# Altium footprint library Integrated Half-Bridge with driver_sizes.PcbLib: 2 footprints
Each footprint in its own frame and in the unit in brackets; x right, y up, seen from the top. Pads: shape width x height; smd on the part's side, far side on the other; paste and mask are expansions set on the pad; w line width, h text height; cw(c..) or ccw(c..) is an arc to the next point about the centre after c.
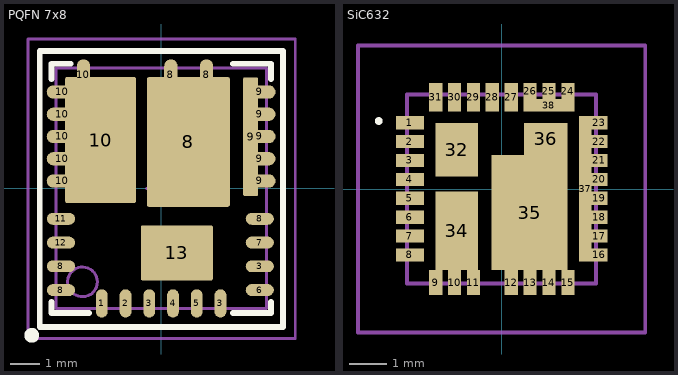
[diagram p0: the footprints below, top view; thin cyan lines are the x and y axes]

## PQFN 7x8 [mm]
pads (31):
  oval 0.4x0.95 smd: 1(-2,-3.875) 2(-1.2,-3.875) 3(-0.4,-3.875) 3(2,-3.875) 4(0.4,-3.875) 5(1.2,-3.875)
  oval 0.95x0.4 smd: 3(3.325,-2.625) 6(3.325,-3.425) 7(3.325,-1.825) 8(-3.375,-3.425) 8(-3.375,-2.625) 8(3.325,-1.025) 11(-3.375,-1.025) 12(-3.375,-1.825)
  oval 0.45x1.05 smd: 8(0.329,3.825) 8(1.529,3.825) 10(-2.617,3.825)
  rrect5% 2.8x4.37 smd: 8(0.92,1.565)
  rrect20% 0.5x4 smd: 9(3.015,1.745)
  oval 1.05x0.45 smd: 9(3.33,0.25) 9(3.33,1) 9(3.33,1.75) 9(3.33,2.5) 9(3.33,3.25) 10(-3.33,0.25) 10(-3.33,1) 10(-3.33,1.75) 10(-3.33,2.5) 10(-3.33,3.25)
  rrect5% 2.39x4.245 smd: 10(-2.04,1.63)
  rrect5% 2.42x1.85 smd: 13(0.53,-2.173)
Top Overlay:
  circle w0.25: c-4.36,-4.95 r0.125
  lines w0.2: -3.7,-3.825 -3.7,-4.2 -2.425,-4.2 ; -3.7,3.685 -3.7,4.2 -3.045,4.2 ; 2.425,-4.2 3.7,-4.2 3.7,-3.825 ; 2.425,4.2 3.7,4.2 3.7,3.685 ; -4.09,-4.675 -4.09,4.625 4.11,4.625 4.11,-4.675 -4.09,-4.675
Mechanical 13:
  circle w0.1: c-2.65,-3.15 r0.5
  lines w0.1: -3.55,-4.05 3.55,-4.05 3.55,4.05 -3.55,4.05 -3.55,-4.05
Mechanical 15:
  lines w0.05: -4.1,-4.6 4.1,-4.6 4.1,4.6 -4.1,4.6 -4.1,-4.6
  lines w0.1: -0.5,0 0.5,0 ; 0,-0.5 0,0.5 ; -4.48,-5.065 -4.48,5.035 4.52,5.035 4.52,-5.065 -4.48,-5.065
3D body: height 1, standoff 0, extent -3.55,-4.05 3.55,4.05

## SiC632 [mm]
pads (37):
  rect 0.75x0.35 smd: 1(-2.425,1.755) 2(-2.425,1.255) 3(-2.425,0.755) 4(-2.425,0.255) 5(-2.425,-0.245) 6(-2.425,-0.745) 7(-2.425,-1.245) 8(-2.425,-1.745)
  rect 0.35x0.65 smd: 9(-1.745,-2.475) 10(-1.245,-2.475) 11(-0.745,-2.475) 12(0.255,-2.475) 13(0.755,-2.475) 14(1.255,-2.475) 15(1.755,-2.475)
  rect 0.42x0.35 smd: 16(2.59,-1.745) 17(2.59,-1.245) 18(2.59,-0.745) 19(2.59,-0.245) 20(2.59,0.255) 21(2.59,0.755) 22(2.59,1.255) 23(2.59,1.755)
  rect 0.35x0.42 smd: 24(1.755,2.59) 25(1.255,2.59) 26(0.755,2.59)
  rect 0.35x0.75 smd: 27(0.255,2.425) 28(-0.245,2.425) 29(-0.745,2.425) 30(-1.245,2.425) 31(-1.745,2.425)
  rect 1.13x1.42 smd: 32(-1.185,1.04)
  rect 1.13x2.08 smd: 34(-1.185,-1.11)
  rect 2.02x3.05 smd: 35(0.74,-0.625)
  rect 1.15x0.85 smd: 36(1.175,1.325)
  rect 0.33x3.85 smd: 37(2.215,0.005)
  rect 1.35x0.33 smd: 38(1.255,2.215)
Top Overlay:
  lines w0.1: -3.3,1.8 ccw(c-3.25,1.8) -3.2,1.8 ccw(c-3.25,1.8) -3.3,1.8
Mechanical 13:
  lines w0.1: -2.5,-2.5 -2.5,2.5 2.5,2.5 2.5,-2.5 -2.5,-2.5
Mechanical 15:
  lines w0.1: -3.8,-3.8 -3.8,3.8 3.8,3.8 3.8,-3.8 -3.8,-3.8
3D body "SIC634CD-T1-GE3.stp": height 0.9, standoff 0, extent -2.5,-2.5 2.5,2.5